# Altium integrated library Linear Technology PMIC-Switching Reg LTC1174-LTC3901.IntLib: 2647 symbols (part 158 of 310)
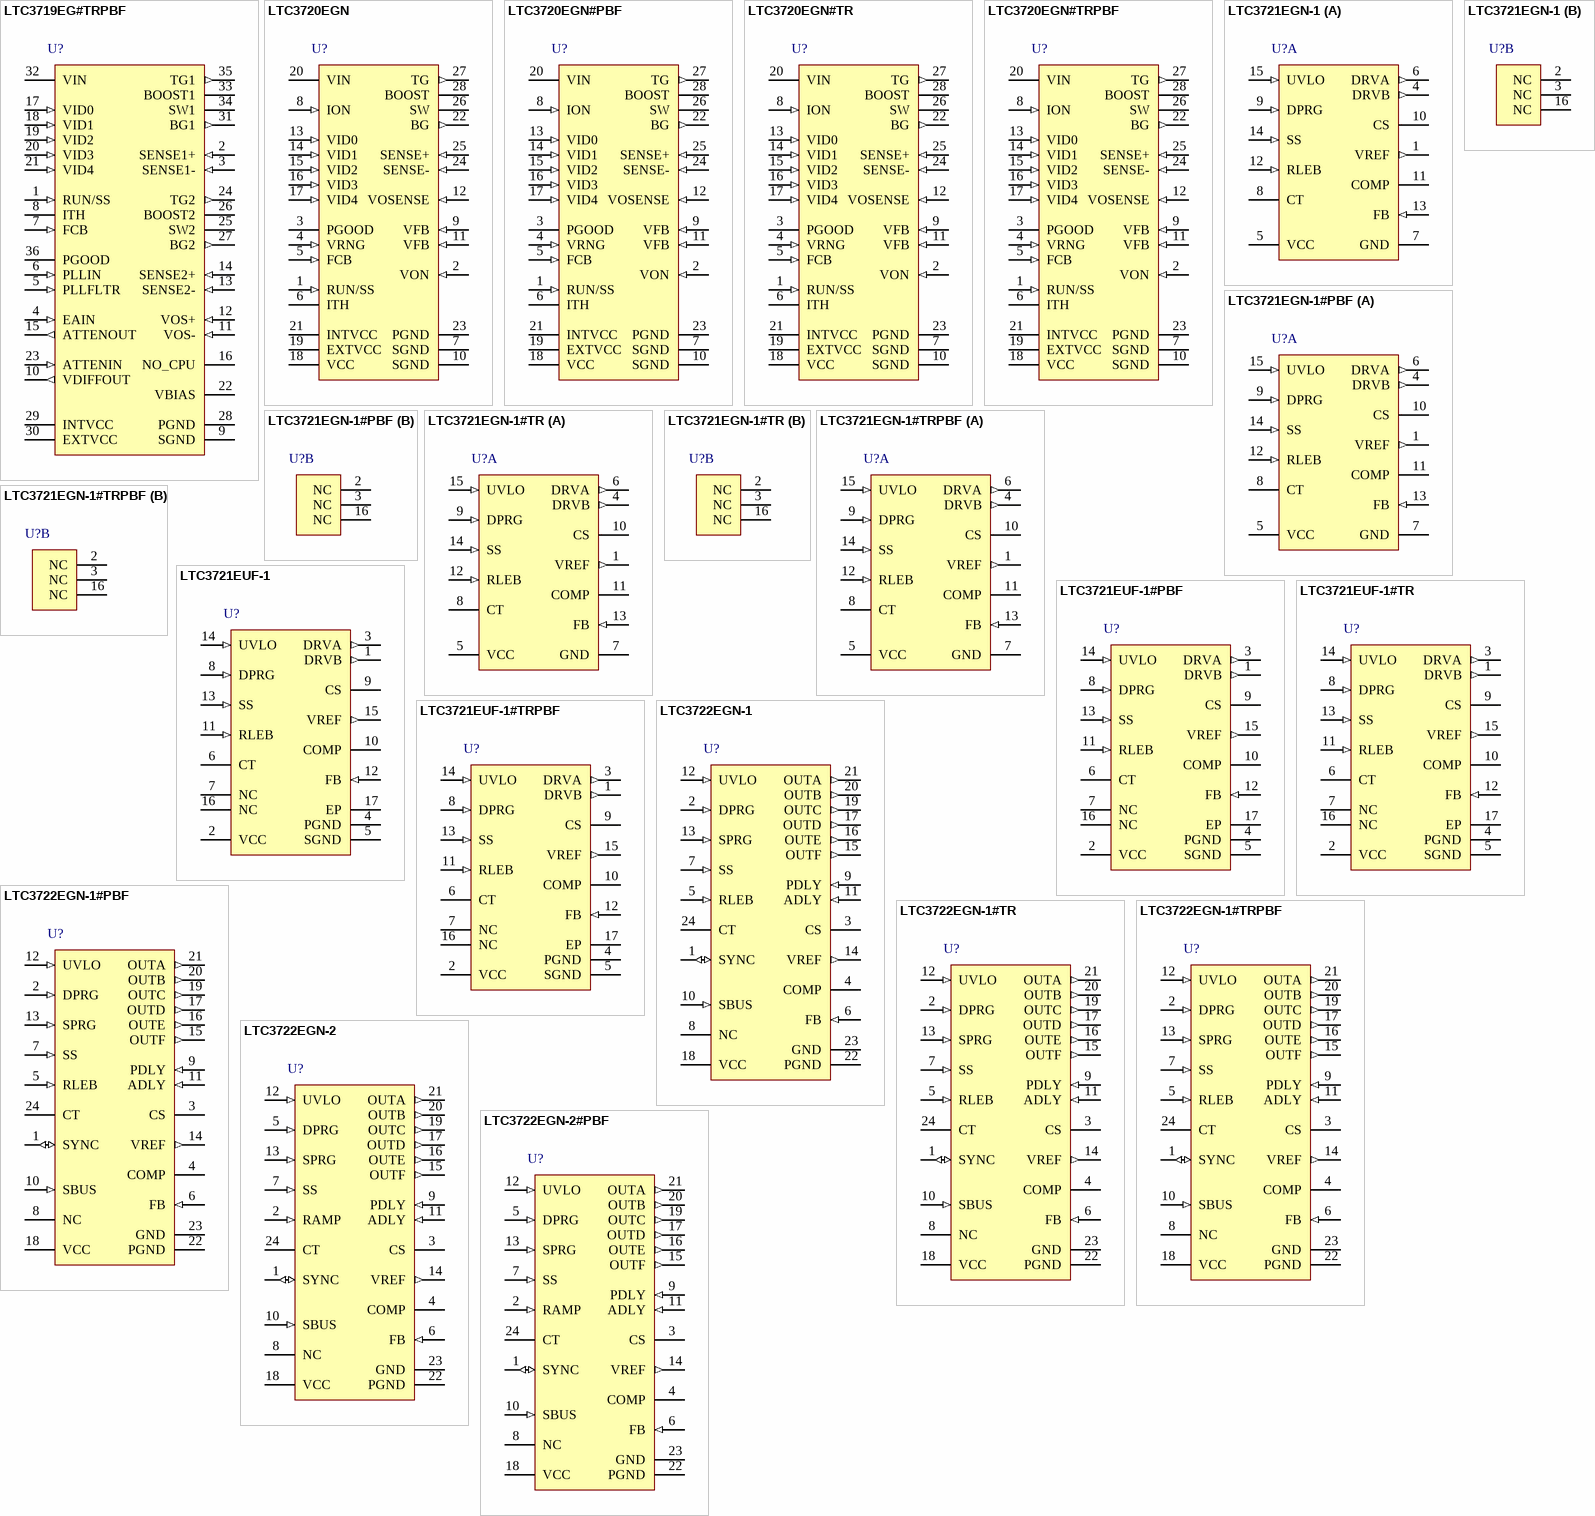
[diagram p306: symbols LTC3719EG#TRPBF to LTC3722EGN-2#PBF]

## LTC3722EGN-1#PBF
designator U?
Synchronous Dual Mode Phase Modulated Full Bridge Controller, Current Mode, 24-pin SOP (GN-24), -40 to 85 degC, Pb-Free; Manufacturer: Linear Technology; PartNumber: LTC3722EGN-1#PBF; Number of Outputs: 1; PackageReference: GN24; PackageDescription: 24-Pin Plastic SSOP , Body 8.5 x 3.9 mm, Pitch 0.635 mm; Supplier 1: Digi-Key; Supplier Part Number 1: LTC3722EGN-1#PBF-ND; RoHS: TRUE
footprint LT-GN-24_N (SOP, 24-Leads, Body 8.7x4mm, Pitch 0.635mm, IPC Medium Density)
footprint LT-GN-24_L (SOP, 24-Leads, Body 8.7x4mm, Pitch 0.635mm, IPC High Density)
footprint LT-GN-24_M (SOP, 24-Leads, Body 8.7x4mm, Pitch 0.635mm, IPC Low Density)
pins: 1 SYNC (io) "Synchronization Input/Output for the Oscillator. The input threshold for SYNC is approximately 1.9V, making it compatible with both CMOS and TTL logic. Terminate SYNC with a 5.1k resistor to GND.", 2 DPRG (in) "Programming Input for Default Zero Voltage Transition (ZVS) Delay. Connect a resistor from DPRG to VREF to set the maximum turn on delay for outputs A, B, C, D. The nominal voltage on DPRG is 2V.", 3 CS "Input to Phase Modulator for the LTC3722-1. Input to pulse-by-pulse and overload current limit comparators, output of slope compensation circuitry. The pulse by pulse comparator has a nominal 300mV threshold, while the (See Datasheet)", 4 COMP "Error Amplifier Output, Inverting Input to Phase Modulator.", 5 RLEB (in) "Timing Resistor for Leading Edge Blanking. Use a 10k to 100k resistor to program from 40ns to 310ns of leading edge blanking of the current sense signal on CS for the LTC3722-1. A +/-1% tolerance resistor is recommended. The (See Datasheet)", 6 FB (in) "Error Amplifier Inverting Input. This is the voltage feedback input for the LTC3722. The nominal regulation voltage at FB is 1.204V.", 7 SS (in) "Soft-Start/Restart Delay Circuitry Timing Capacitor. A capacitor from SS to GND provides a controlled ramp of the current command (LTC3722-1), or duty cycle (LTC3722-2). During overload conditions SS is discharged to ground (See Datasheet)", 8 NC "No Connection. Tie this pin to GND.", 9 PDLY (in) "Passive Leg Delay Circuit Input. PDLY is connected through a voltage divider to the left leg of the bridge in adaptive ZVS mode. In fixed ZVS mode, a voltage between 0V and 2.5V on PDLY, programs a fixed ZVS delay time for (See Datasheet)", 10 SBUS (in) "Line Voltage Sense Input. SBUS is connected to the main DC voltage feed by a resistive voltage divider when using adaptive ZVS control. The voltage divider is designed to produce 1.5V on SBUS at nominal VIN. If SBUS is tied (See Datasheet)", 11 ADLY (in) "Active Leg Delay Circuit Input. ADLY is connected through a voltage divider to the right leg of the bridge in adaptive ZVS mode. In fixed ZVS mode, a voltage between 0V and 2.5V on ADLY, programs a fixed ZVS delay time for (See Datasheet)", 12 UVLO (in) "Input to Program System Turn- On and Turn-Off Voltages. The nominal threshold of the UVLO comparator is 5V. UVLO is connected to the main DC system feed through a resistor divider. When the UVLO threshold is exceeded, the (See Datasheet)", 13 SPRG (in) "A resistor is connected between SPRG and GND to set the turn-off delay for the synchronous rectifier driver outputs (OUTE and OUTF). The nominal voltage on SPRG is 2V.", 14 VREF (out) "Output of the 5V Reference. VREF is capable of supplying up to 18mA to external circuitry. VREF should be decoupled to GND with a 1uF ceramic capacitor.", 15 OUTF (out) "50mA Driver for Synchronous Rectifier Associated with OUTB and OUTC.", 16 OUTE (out) "50mA Driver for Synchronous Rectifier Associated with OUTA and OUTD.", 17 OUTD (out) "50mA Driver for Low Side of the Full Bridge Active Leg.", 18 VCC (power) "Supply Voltage Input to the LTC3722-1/LTC3722-2 and 10.25V Shunt Regulator. The chip is enabled after VCC has risen high enough to allow the VCC shunt regulator to conduct current and the UVLO comparator threshold is (See Datasheet)", 19 OUTC (out) "50mA Driver for High Side of the Full Bridge Active Leg.", 20 OUTB (out) "50mA Driver for Low Side of the Full Bridge Passive Leg.", 21 OUTA (out) "50mA Driver for High Side of the Full Bridge Passive Leg.", 22 PGND (power) "Power Ground for the LTC3722. The output drivers of the LTC3722 are referenced to PGND. Connect the ceramic VCC bypass capacitor directly to PGND.", 23 GND (power) "All circuits other than the output drivers in the LTC3722 are referenced to GND. Use of a ground plane is recommended but not absolutely necessary.", 24 CT "Timing Capacitor for the Oscillator. Use a +/-5% or better low ESR ceramic capacitor for best results."